# Altium footprint library Thermometer.PcbLib: 36 footprints (part 1 of 3)
Each footprint in its own frame and in the unit in brackets; x right, y up, seen from the top. Pads: shape width x height; smd on the part's side, far side on the other; paste and mask are expansions set on the pad; w line width, h text height; cw(c..) or ccw(c..) is an arc to the next point about the centre after c.
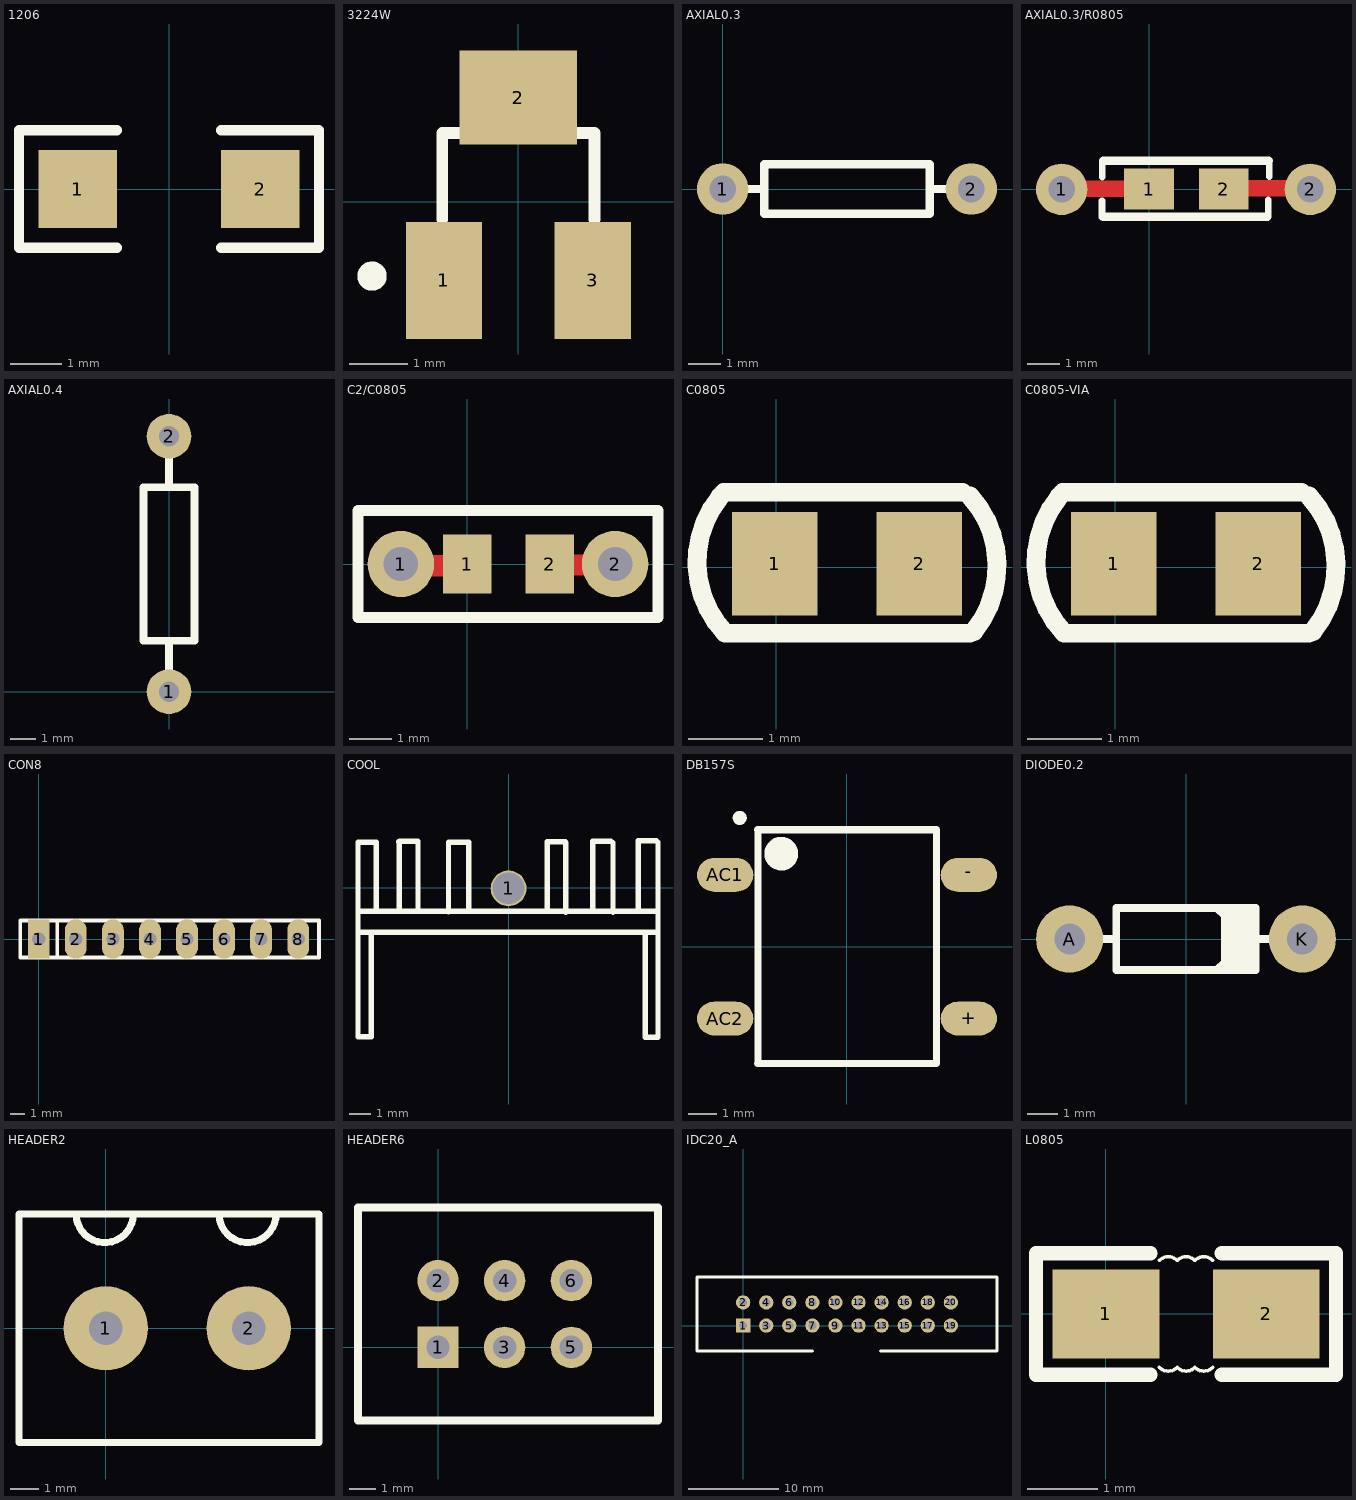
[diagram p0: the footprints below, top view; thin cyan lines are the x and y axes]

## 1206 [mil]
pads (2):
  rect 60x60 smd: 1(-70,0) 2(70,0)
Top Overlay:
  lines w7.87: -40,-45 -115,-45 -115,45 -40,45 ; 40,-45 115,-45 115,45 40,45

## 3224W [mm]
pads (3):
  rect 1.3x2 smd: 1(-1.27,-1.343) 3(1.27,-1.343)
  rect 2x1.6 smd: 2(0,1.778)
Top Overlay:
  circle w0.25: c-2.496,-1.269 r0.125
  lines w0.2: -1.3,-0.3 -1.3,1.175 -0.85,1.175 ; 0.85,1.175 1.3,1.175 1.3,-0.3

## AXIAL0.3 [mil]
pads (2):
  round 62 hole 32: 1(0,0) 2(300,0)
Top Overlay:
  lines w10: 0,0 50,0 ; 300,0 250,0 ; 250,0 250,-30 50,-30 50,30 250,30 250,0

## AXIAL0.3/R0805 [mil]
pads (4):
  round 62 hole 32: 1(-105.39,-0.43) 2(194.61,-0.43)
  rect 60x50 smd: 1(0,0) 2(90,0)
Top Layer:
  lines w20: -79.45,0.2 -1.57,0.2 ; 81,1 183,1
Top Overlay:
  lines w1.97: 30,-30 35,-35 40,-30 45,-35 50,-30 55,-35 60,-30 ; 30,30 35,35 40,30 45,35 50,30 55,35 60,30
  lines w8: -56.77,-34.17 -56.77,-14 ; -56.61,14 -56.61,33.54 ; -39.19,-34.16 25,-34.16 ; -39.19,34.09 25,34.09 ; 65,-34.08 129.13,-34.08 ; 65,34.12 129.13,34.12 ; 143.82,-33.35 143.82,-13 ; 145.12,15 145.12,34.65
  lines w10: -55.39,-33.35 142.91,-33.35 ; -55.39,34.02 144.61,34.02

## AXIAL0.4 [mil]
pads (2):
  round 70 hole 32: 1(0,0) 2(0,400)
Top Overlay:
  lines w12: 0,0 0,80 ; 0,320 0,400 ; -40,80 -40,320 40,320 40,80 -40,80

## C2/C0805 [mil]
pads (4):
  round 62 hole 32: 1(-61.91,0.2) 2(138.09,0.2)
  rect 45.37x55.12 smd: 1(0,0) 2(77,0)
Top Layer:
  lines w20: -35.61,-1.45 -0.77,-1.45 ; 77.65,-0.7 111.08,-0.7
Top Overlay:
  lines w10: -101.91,-49.8 -101.91,50.2 178.09,50.2 178.09,-49.8 -101.91,-49.8

## C0805 [mil]
pads (2):
  rect 45.37x55.12 smd: 1(-1,2) 2(76,2)
Top Overlay:
  lines w5: 55,38 102.97,38
  lines w10: -30,37.68 ccw(c13.27,2.85) -27.39,-35 102.97,-35 ; -28,40 99,40 ; 102.97,38 cw(c61.73,0.79) 105,-34.04

## C0805-VIA [mil]
pads (2):
  rect 45.37x55.12 smd: 1(-1,2) 2(76,2)
Top Overlay:
  lines w5: 55,38 102.97,38
  lines w10: -30,37.68 ccw(c13.27,2.85) -27.39,-35 102.97,-35 ; -28,40 99,40 ; 102.97,38 cw(c61.73,0.79) 105,-34.04

## CON8 [mm]
pads (8):
  rect 1.5x2.7 hole 0.9: 1(0,0)
  oval 1.5x2.7 hole 0.9: 2(2.54,0) 3(5.08,0) 4(7.62,0) 5(10.16,0) 6(12.7,0) 7(15.24,0) 8(17.78,0)
Top Overlay:
  lines w0.254: 1.27,-1.27 1.27,1.27 ; -1.27,-1.27 19.202,-1.27 19.202,1.27 -1.27,1.27 -1.27,-1.27

## COOL [mm]
pads (1):
  round 1.7 hole 1.5: 1(0,-0.025)
Top Overlay:
  lines w0.254: -7.112,-2.108 -7.137,-2.134 -7.137,-7.061 -6.502,-7.061 -6.502,-2.159 ; -7.112,-1.118 -0.127,-1.118 7.087,-1.118 ; -6.274,-1.067 -6.274,2.159 -7.137,2.159 -7.137,-2.108 0,-2.108 7.087,-2.108 7.087,2.159 ; -5.207,2.184 -5.182,2.184 -5.182,-1.118 ; -5.156,2.21 -4.293,2.21 -4.293,-1.016 ; -2.845,-1.143 -2.845,2.159 ; -2.743,2.159 -1.88,2.159 -1.88,-1.067 ; 1.829,-1.041 1.829,2.184 2.692,2.184 ; 2.718,-1.168 2.718,2.134 ; 3.988,-1.016 3.988,2.21 4.851,2.21 ; 4.953,-1.168 4.953,2.134 ; 6.147,-0.991 6.147,2.235 7.01,2.235 ; 6.477,-2.134 6.477,-7.087 7.087,-7.087 7.087,-2.184

## DB157S [mm]
pads (4):
  oval 2x1.2 smd: +(4.325,-2.55) -(4.325,2.55) AC1(-4.325,2.55) AC2(-4.325,-2.55)
Top Overlay:
  circle w0.6: c-2.332,3.302 r0.3
  circle w0.25: c-3.808,4.572 r0.125
  lines w0.254: -3.175,-4.15 3.175,-4.15 3.175,4.15 -3.175,4.15 ; -3.157,-4.15 -3.157,4.15

## DIODE0.2 [mm]
pads (2):
  round 2.2 hole 1: A(-3.81,0) K(3.81,0)
Top Overlay:
  rectangle: 1.27,-1.016 2.286,1.016
  lines w0.254: -2.794,0 -2.286,0 ; 1.016,-1.016 1.27,-0.762 ; 1.016,1.016 1.27,0.762 ; 1.27,-1.016 1.27,1.016 ; 2.286,0 2.794,0 ; -2.286,-1.016 2.286,-1.016 2.286,1.016 -2.286,1.016 -2.286,-1.016

## HEADER2 [mm]
pads (2):
  round 3 hole 1.2: 1(0,0) 2(5.08,0)
Top Overlay:
  lines w0.254: -1.056,4.064 ccw(c-0.04,4.064) 0.976,4.064 ; 4.024,4.064 ccw(c5.04,4.064) 6.056,4.064 ; -3.088,-4.064 -3.088,4.064 2.5,4.064 7.58,4.064 7.58,-4.064 -3.088,-4.064

## HEADER6 [mil]
pads (6):
  rect 62x62 hole 35: 1(0,0)
  round 62 hole 35: 2(0,100) 3(100,0) 4(100,100) 5(200,0) 6(200,100)
Top Overlay:
  lines w12: -120,-110 330,-110 330,210 -120,210 -120,-110

## IDC20_A [mil]
pads (20):
  rect 62x62 hole 35: 1(0,0)
  round 62 hole 35: 2(0,100) 3(100,0) 4(100,100) 5(200,0) 6(200,100) 7(300,0) 8(300,100) 9(400,0) 10(400,100) 11(500,0) 12(500,100) 13(600,0) 14(600,100) 15(700,0) 16(700,100) 17(800,0) 18(800,100) 19(900,0) 20(900,100)
Top Overlay:
  lines w12: 300,-110 -200,-110 -200,210 1100,210 1100,-110 ; 595,-110 1095,-110

## L0805 [mil]
pads (2):
  rect 60x50 smd: 1(0,0) 2(90,0)
Top Overlay:
  lines w1.97: 30,-30 ccw(c35,-25) 40,-30 ccw(c45,-25) 50,-30 ccw(c55,-25) 60,-30 ; 30,30 cw(c35,25) 40,30 cw(c45,25) 50,30 cw(c55,25) 60,30
  lines w8: 25,-34.16 -39.19,-34.16 -39.19,34.09 25,34.09 ; 65,-34.08 129.13,-34.08 129.13,34.12 65,34.12